# Altium footprint library Connector_IDC.PcbLib: 182 footprints (part 7 of 12)
Each footprint in its own frame and in the unit in brackets; x right, y up, seen from the top. Pads: shape width x height; smd on the part's side, far side on the other; paste and mask are expansions set on the pad; w line width, h text height; cw(c..) or ccw(c..) is an arc to the next point about the centre after c.
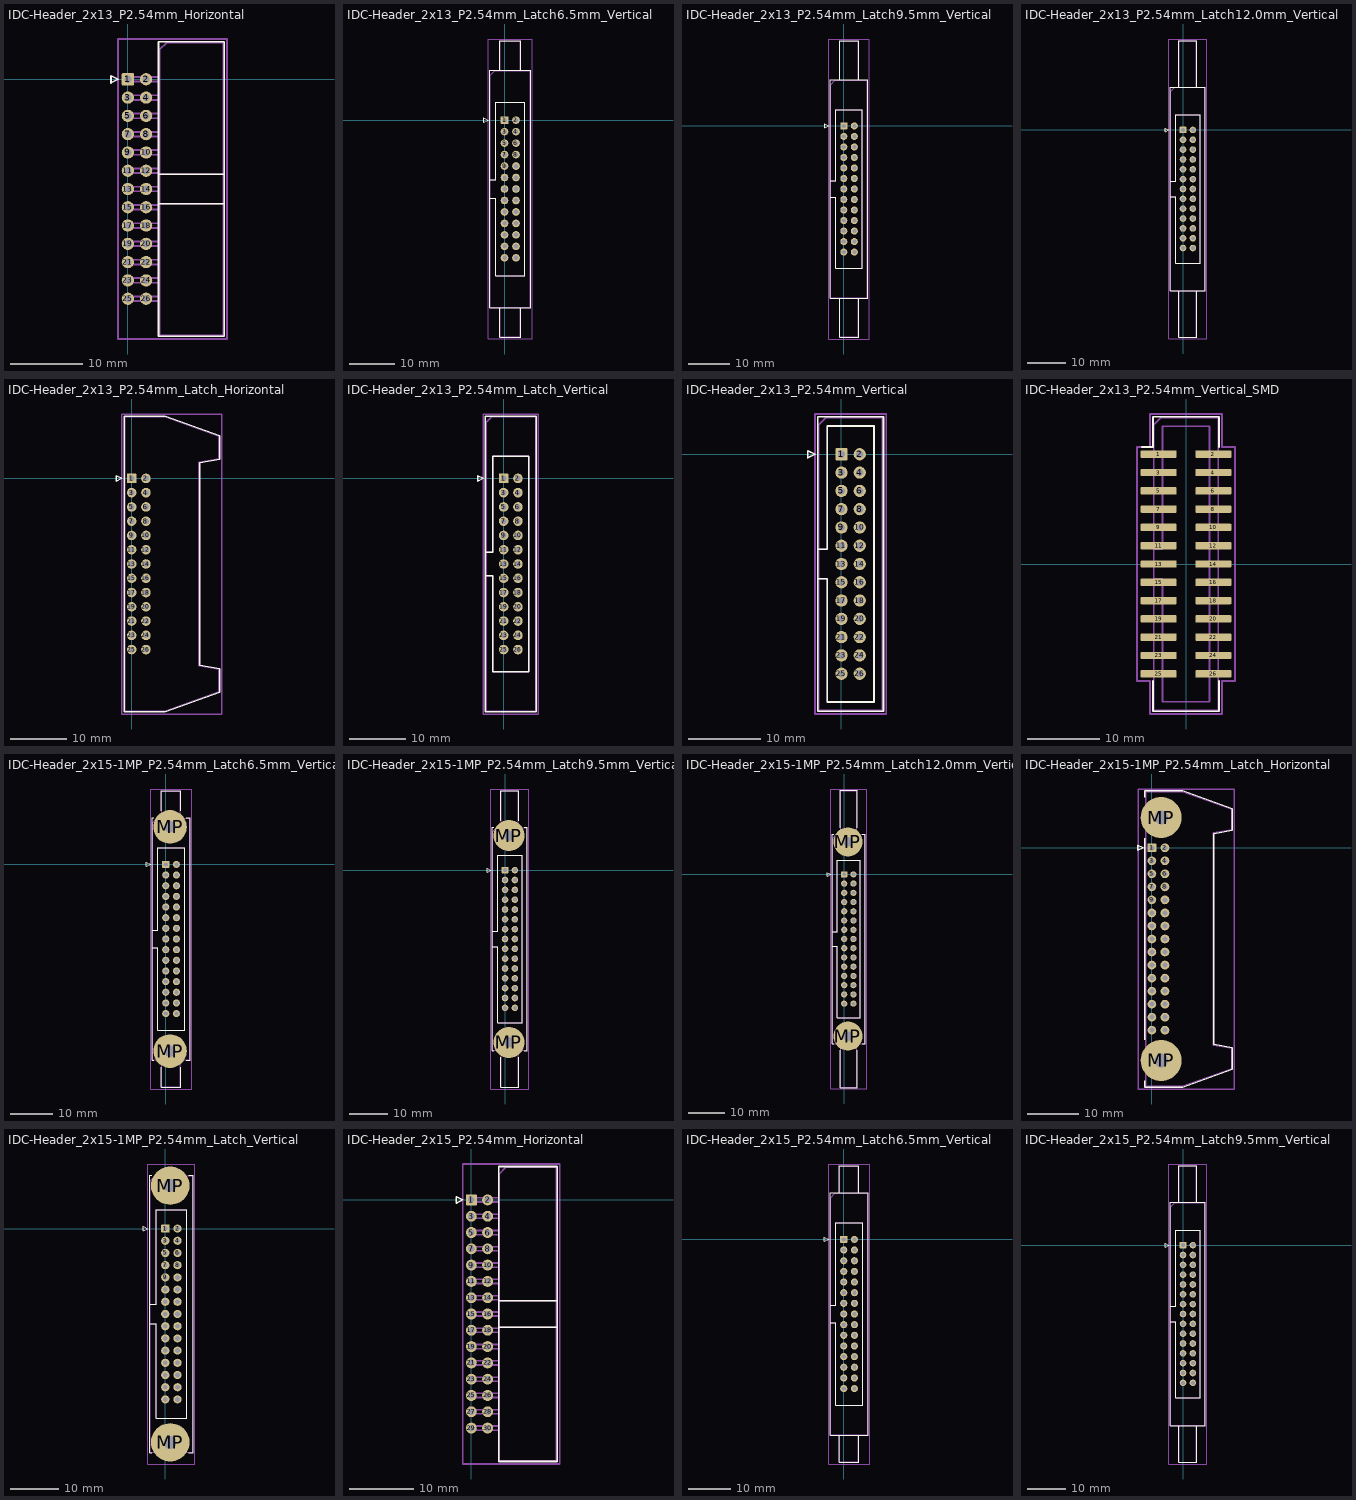
[diagram p6: the footprints below, top view; thin cyan lines are the x and y axes]

## IDC-Header_2x13_P2.54mm_Horizontal [mm]
pads (26):
  rrect15% 1.7x1.7 hole 1: 1(0,0)
  round 1.7 hole 1: 2(2.54,0) 3(0,-2.54) 4(2.54,-2.54) 5(0,-5.08) 6(2.54,-5.08) 7(0,-7.62) 8(2.54,-7.62) 9(0,-10.16) 10(2.54,-10.16) 11(0,-12.7) 12(2.54,-12.7) 13(0,-15.24) 14(2.54,-15.24) 15(0,-17.78) 16(2.54,-17.78) 17(0,-20.32) 18(2.54,-20.32) 19(0,-22.86) 20(2.54,-22.86) 21(0,-25.4) 22(2.54,-25.4) 23(0,-27.94) 24(2.54,-27.94) 25(0,-30.48) 26(2.54,-30.48)
F.SilkS:
  lines w0.254: 4.27,-17.29 13.39,-17.29 ; 4.27,-13.19 13.39,-13.19 ; -2.35,-0.5 -1.35,0 -2.35,0.5 -2.35,-0.5 ; 4.27,-35.69 13.39,-35.69 13.39,5.21 4.27,5.21 4.27,-35.69
Top Assembly:
  lines w0.254: 4.38,-30.8 -0.32,-30.8 -0.32,-30.16 4.38,-30.16 ; 4.38,-28.26 -0.32,-28.26 -0.32,-27.62 4.38,-27.62 ; 4.38,-25.72 -0.32,-25.72 -0.32,-25.08 4.38,-25.08 ; 4.38,-23.18 -0.32,-23.18 -0.32,-22.54 4.38,-22.54 ; 4.38,-20.64 -0.32,-20.64 -0.32,-20 4.38,-20 ; 4.38,-18.1 -0.32,-18.1 -0.32,-17.46 4.38,-17.46 ; 4.38,-17.29 13.28,-17.29 ; 4.38,-15.56 -0.32,-15.56 -0.32,-14.92 4.38,-14.92 ; 4.38,-13.19 13.28,-13.19 ; 4.38,-13.02 -0.32,-13.02 -0.32,-12.38 4.38,-12.38 ; 4.38,-10.48 -0.32,-10.48 -0.32,-9.84 4.38,-9.84 ; 4.38,-7.94 -0.32,-7.94 -0.32,-7.3 4.38,-7.3 ; 4.38,-5.4 -0.32,-5.4 -0.32,-4.76 4.38,-4.76 ; 4.38,-2.86 -0.32,-2.86 -0.32,-2.22 4.38,-2.22 ; 4.38,-0.32 -0.32,-0.32 -0.32,0.32 4.38,0.32 ; 4.38,-35.58 13.28,-35.58 13.28,5.1 5.38,5.1 4.38,4.1 4.38,-35.58
  text "'.Designator'" at 9.67,-19.287 h1
Top Courtyard:
  lines w0.254: -1.35,-36.08 13.78,-36.08 13.78,5.6 -1.35,5.6 -1.35,-36.08
Top Designator:
  text ".Designator" at -1.903,-15.748 h1.52

## IDC-Header_2x13_P2.54mm_Latch6.5mm_Vertical [mm]
pads (26):
  rrect15% 1.7x1.7 hole 1: 1(0,0)
  round 1.7 hole 1: 2(2.54,0) 3(0,-2.54) 4(2.54,-2.54) 5(0,-5.08) 6(2.54,-5.08) 7(0,-7.62) 8(2.54,-7.62) 9(0,-10.16) 10(2.54,-10.16) 11(0,-12.7) 12(2.54,-12.7) 13(0,-15.24) 14(2.54,-15.24) 15(0,-17.78) 16(2.54,-17.78) 17(0,-20.32) 18(2.54,-20.32) 19(0,-22.86) 20(2.54,-22.86) 21(0,-25.4) 22(2.54,-25.4) 23(0,-27.94) 24(2.54,-27.94) 25(0,-30.48) 26(2.54,-30.48)
F.SilkS:
  lines w0.254: -3.24,-17.29 -1.93,-17.29 -1.93,-34.4 4.47,-34.4 4.47,3.92 -1.93,3.92 -1.93,-13.19 -3.24,-13.19 ; -1.04,-41.56 -1.04,-48.06 3.58,-48.06 3.58,-41.56 ; -1.04,11.08 -1.04,17.58 3.58,17.58 3.58,11.08 ; -4.63,-0.5 -3.63,0 -4.63,0.5 -4.63,-0.5 ; -3.24,-41.56 5.78,-41.56 5.78,11.08 -3.24,11.08 -3.24,-41.56
Top Assembly:
  lines w0.254: -3.13,-17.29 -1.93,-17.29 -1.93,-34.4 4.47,-34.4 4.47,3.92 -1.93,3.92 -1.93,-13.19 -3.13,-13.19 ; -0.93,-41.45 -0.93,-47.95 3.47,-47.95 3.47,-41.45 ; -0.93,10.97 -0.93,17.47 3.47,17.47 3.47,10.97 ; -3.13,-41.45 5.67,-41.45 5.67,10.97 -2.13,10.97 -3.13,9.97 -3.13,-41.45
  text "'.Designator'" at 2.11,-19.287 h1
Top Courtyard:
  lines w0.254: -3.63,-48.45 6.17,-48.45 6.17,17.97 -3.63,17.97 -3.63,-48.45
Top Designator:
  text ".Designator" at -6.848,-15.748 h1.52

## IDC-Header_2x13_P2.54mm_Latch9.5mm_Vertical [mm]
pads (26):
  rrect15% 1.7x1.7 hole 1: 1(0,0)
  round 1.7 hole 1: 2(2.54,0) 3(0,-2.54) 4(2.54,-2.54) 5(0,-5.08) 6(2.54,-5.08) 7(0,-7.62) 8(2.54,-7.62) 9(0,-10.16) 10(2.54,-10.16) 11(0,-12.7) 12(2.54,-12.7) 13(0,-15.24) 14(2.54,-15.24) 15(0,-17.78) 16(2.54,-17.78) 17(0,-20.32) 18(2.54,-20.32) 19(0,-22.86) 20(2.54,-22.86) 21(0,-25.4) 22(2.54,-25.4) 23(0,-27.94) 24(2.54,-27.94) 25(0,-30.48) 26(2.54,-30.48)
F.SilkS:
  lines w0.254: -3.24,-17.29 -1.93,-17.29 -1.93,-34.4 4.47,-34.4 4.47,3.92 -1.93,3.92 -1.93,-13.19 -3.24,-13.19 ; -1.04,-41.56 -1.04,-51.06 3.58,-51.06 3.58,-41.56 ; -1.04,11.08 -1.04,20.58 3.58,20.58 3.58,11.08 ; -4.63,-0.5 -3.63,0 -4.63,0.5 -4.63,-0.5 ; -3.24,-41.56 5.78,-41.56 5.78,11.08 -3.24,11.08 -3.24,-41.56
Top Assembly:
  lines w0.254: -3.13,-17.29 -1.93,-17.29 -1.93,-34.4 4.47,-34.4 4.47,3.92 -1.93,3.92 -1.93,-13.19 -3.13,-13.19 ; -0.93,-41.45 -0.93,-50.95 3.47,-50.95 3.47,-41.45 ; -0.93,10.97 -0.93,20.47 3.47,20.47 3.47,10.97 ; -3.13,-41.45 5.67,-41.45 5.67,10.97 -2.13,10.97 -3.13,9.97 -3.13,-41.45
  text "'.Designator'" at 2.11,-19.287 h1
Top Courtyard:
  lines w0.254: -3.63,-51.45 6.17,-51.45 6.17,20.97 -3.63,20.97 -3.63,-51.45
Top Designator:
  text ".Designator" at -6.848,-15.748 h1.52

## IDC-Header_2x13_P2.54mm_Latch12.0mm_Vertical [mm]
pads (26):
  rrect15% 1.7x1.7 hole 1: 1(0,0)
  round 1.7 hole 1: 2(2.54,0) 3(0,-2.54) 4(2.54,-2.54) 5(0,-5.08) 6(2.54,-5.08) 7(0,-7.62) 8(2.54,-7.62) 9(0,-10.16) 10(2.54,-10.16) 11(0,-12.7) 12(2.54,-12.7) 13(0,-15.24) 14(2.54,-15.24) 15(0,-17.78) 16(2.54,-17.78) 17(0,-20.32) 18(2.54,-20.32) 19(0,-22.86) 20(2.54,-22.86) 21(0,-25.4) 22(2.54,-25.4) 23(0,-27.94) 24(2.54,-27.94) 25(0,-30.48) 26(2.54,-30.48)
F.SilkS:
  lines w0.254: -3.24,-17.29 -1.93,-17.29 -1.93,-34.4 4.47,-34.4 4.47,3.92 -1.93,3.92 -1.93,-13.19 -3.24,-13.19 ; -1.04,-41.56 -1.04,-53.56 3.58,-53.56 3.58,-41.56 ; -1.04,11.08 -1.04,23.08 3.58,23.08 3.58,11.08 ; -4.63,-0.5 -3.63,0 -4.63,0.5 -4.63,-0.5 ; -3.24,-41.56 5.78,-41.56 5.78,11.08 -3.24,11.08 -3.24,-41.56
Top Assembly:
  lines w0.254: -3.13,-17.29 -1.93,-17.29 -1.93,-34.4 4.47,-34.4 4.47,3.92 -1.93,3.92 -1.93,-13.19 -3.13,-13.19 ; -0.93,-41.45 -0.93,-53.45 3.47,-53.45 3.47,-41.45 ; -0.93,10.97 -0.93,22.97 3.47,22.97 3.47,10.97 ; -3.13,-41.45 5.67,-41.45 5.67,10.97 -2.13,10.97 -3.13,9.97 -3.13,-41.45
  text "'.Designator'" at 2.11,-19.287 h1
Top Courtyard:
  lines w0.254: -3.63,-53.95 6.17,-53.95 6.17,23.47 -3.63,23.47 -3.63,-53.95
Top Designator:
  text ".Designator" at -6.848,-15.748 h1.52

## IDC-Header_2x13_P2.54mm_Latch_Horizontal [mm]
pads (26):
  rrect15% 1.7x1.7 hole 1: 1(0,0)
  round 1.7 hole 1: 2(2.54,0) 3(0,-2.54) 4(2.54,-2.54) 5(0,-5.08) 6(2.54,-5.08) 7(0,-7.62) 8(2.54,-7.62) 9(0,-10.16) 10(2.54,-10.16) 11(0,-12.7) 12(2.54,-12.7) 13(0,-15.24) 14(2.54,-15.24) 15(0,-17.78) 16(2.54,-17.78) 17(0,-20.32) 18(2.54,-20.32) 19(0,-22.86) 20(2.54,-22.86) 21(0,-25.4) 22(2.54,-25.4) 23(0,-27.94) 24(2.54,-27.94) 25(0,-30.48) 26(2.54,-30.48)
F.SilkS:
  lines w0.254: -2.74,-0.5 -1.74,0 -2.74,0.5 -2.74,-0.5 ; -1.35,-41.56 5.98,-41.56 15.64,-38.09 15.64,-33.9 12.08,-33.27 12.08,2.79 15.64,3.42 15.64,7.61 5.98,11.08 -1.35,11.08 -1.35,-41.56
Top Assembly:
  lines w0.254: -1.24,-41.45 5.87,-41.45 15.53,-37.98 15.53,-34.01 11.97,-33.38 11.97,2.9 15.53,3.53 15.53,7.5 5.87,10.97 -1.24,10.97 -1.24,-41.45
  text "'.Designator'" at 7.985,-19.287 h1
Top Courtyard:
  lines w0.254: -1.74,-41.95 16.03,-41.95 16.03,11.47 -1.74,11.47 -1.74,-41.95
Top Designator:
  text ".Designator" at -0.973,-15.748 h1.52

## IDC-Header_2x13_P2.54mm_Latch_Vertical [mm]
pads (26):
  rrect15% 1.7x1.7 hole 1: 1(0,0)
  round 1.7 hole 1: 2(2.54,0) 3(0,-2.54) 4(2.54,-2.54) 5(0,-5.08) 6(2.54,-5.08) 7(0,-7.62) 8(2.54,-7.62) 9(0,-10.16) 10(2.54,-10.16) 11(0,-12.7) 12(2.54,-12.7) 13(0,-15.24) 14(2.54,-15.24) 15(0,-17.78) 16(2.54,-17.78) 17(0,-20.32) 18(2.54,-20.32) 19(0,-22.86) 20(2.54,-22.86) 21(0,-25.4) 22(2.54,-25.4) 23(0,-27.94) 24(2.54,-27.94) 25(0,-30.48) 26(2.54,-30.48)
F.SilkS:
  lines w0.254: -3.24,-17.29 -1.93,-17.29 -1.93,-34.4 4.47,-34.4 4.47,3.92 -1.93,3.92 -1.93,-13.19 -3.24,-13.19 ; -4.63,-0.5 -3.63,0 -4.63,0.5 -4.63,-0.5 ; -3.24,-41.56 5.78,-41.56 5.78,11.08 -3.24,11.08 -3.24,-41.56
Top Assembly:
  lines w0.254: -3.13,-17.29 -1.93,-17.29 -1.93,-34.4 4.47,-34.4 4.47,3.92 -1.93,3.92 -1.93,-13.19 -3.13,-13.19 ; -3.13,-41.45 5.67,-41.45 5.67,10.97 -2.13,10.97 -3.13,9.97 -3.13,-41.45
  text "'.Designator'" at 2.11,-19.287 h1
Top Courtyard:
  lines w0.254: -3.63,-41.95 6.17,-41.95 6.17,11.47 -3.63,11.47 -3.63,-41.95
Top Designator:
  text ".Designator" at -6.848,-15.748 h1.52

## IDC-Header_2x13_P2.54mm_Vertical [mm]
pads (26):
  rrect15% 1.7x1.7 hole 1: 1(0,0)
  round 1.7 hole 1: 2(2.54,0) 3(0,-2.54) 4(2.54,-2.54) 5(0,-5.08) 6(2.54,-5.08) 7(0,-7.62) 8(2.54,-7.62) 9(0,-10.16) 10(2.54,-10.16) 11(0,-12.7) 12(2.54,-12.7) 13(0,-15.24) 14(2.54,-15.24) 15(0,-17.78) 16(2.54,-17.78) 17(0,-20.32) 18(2.54,-20.32) 19(0,-22.86) 20(2.54,-22.86) 21(0,-25.4) 22(2.54,-25.4) 23(0,-27.94) 24(2.54,-27.94) 25(0,-30.48) 26(2.54,-30.48)
F.SilkS:
  lines w0.254: -3.29,-17.29 -1.98,-17.29 -1.98,-34.39 4.52,-34.39 4.52,3.91 -1.98,3.91 -1.98,-13.19 -3.29,-13.19 ; -4.68,-0.5 -3.68,0 -4.68,0.5 -4.68,-0.5 ; -3.29,-35.69 5.83,-35.69 5.83,5.21 -3.29,5.21 -3.29,-35.69
Top Assembly:
  lines w0.254: -3.18,-17.29 -1.98,-17.29 -1.98,-34.39 4.52,-34.39 4.52,3.91 -1.98,3.91 -1.98,-13.19 -3.18,-13.19 ; -3.18,-35.58 5.72,-35.58 5.72,5.1 -2.18,5.1 -3.18,4.1 -3.18,-35.58
  text "'.Designator'" at 2.11,-19.287 h1
Top Courtyard:
  lines w0.254: -3.68,-36.08 6.22,-36.08 6.22,5.6 -3.68,5.6 -3.68,-36.08
Top Designator:
  text ".Designator" at -6.848,-15.748 h1.52

## IDC-Header_2x13_P2.54mm_Vertical_SMD [mm]
pads (26):
  rrect25% 5x1.02 smd: 1(-3.8,15.24) 2(3.8,15.24) 3(-3.8,12.7) 4(3.8,12.7) 5(-3.8,10.16) 6(3.8,10.16) 7(-3.8,7.62) 8(3.8,7.62) 9(-3.8,5.08) 10(3.8,5.08) 11(-3.8,2.54) 12(3.8,2.54) 13(-3.8,0) 14(3.8,0) 15(-3.8,-2.54) 16(3.8,-2.54) 17(-3.8,-5.08) 18(3.8,-5.08) 19(-3.8,-7.62) 20(3.8,-7.62) 21(-3.8,-10.16) 22(3.8,-10.16) 23(-3.8,-12.7) 24(3.8,-12.7) 25(-3.8,-15.24) 26(3.8,-15.24)
F.SilkS:
  lines w0.254: -6.085,16.25 -4.585,16.25 -4.585,20.43 4.585,20.43 4.585,16.25 ; -4.585,-16.25 -4.585,-20.43 4.585,-20.43 4.585,-16.25
Top Assembly:
  lines w0.254: -4.475,-2.05 -3.275,-2.05 -3.275,-19.12 3.275,-19.12 3.275,19.12 -3.275,19.12 -3.275,2.05 -4.475,2.05 ; -4.475,-20.32 4.475,-20.32 4.475,20.32 -3.475,20.32 -4.475,19.32 -4.475,-20.32
  text "'.Designator'" at 0.84,-4.047 h1
Top Courtyard:
  lines w0.254: -6.8,-16.25 -4.98,-16.25 -4.98,-20.82 4.98,-20.82 4.98,-16.25 6.8,-16.25 6.8,16.25 4.98,16.25 4.98,20.82 -4.98,20.82 -4.98,16.25 -6.8,16.25 -6.8,-16.25
Top Designator:
  text ".Designator" at -7.618,-0.508 h1.52

## IDC-Header_2x15-1MP_P2.54mm_Latch6.5mm_Vertical [mm]
pads (32):
  rrect15% 1.7x1.7 hole 1: 1(0,0)
  round 1.7 hole 1: 2(2.54,0) 3(0,-2.54) 4(2.54,-2.54) 5(0,-5.08) 6(2.54,-5.08) 7(0,-7.62) 8(2.54,-7.62) 9(0,-10.16) 10(2.54,-10.16) 11(0,-12.7) 12(2.54,-12.7) 13(0,-15.24) 14(2.54,-15.24) 15(0,-17.78) 16(2.54,-17.78) 17(0,-20.32) 18(2.54,-20.32) 19(0,-22.86) 20(2.54,-22.86) 21(0,-25.4) 22(2.54,-25.4) 23(0,-27.94) 24(2.54,-27.94) 25(0,-30.48) 26(2.54,-30.48) 27(0,-33.02) 28(2.54,-33.02) 29(0,-35.56) 30(2.54,-35.56)
  round 8 hole 2.69: MP(1.02,-44.5) MP(1.02,8.94)
F.SilkS:
  lines w0.254: -3.24,-19.83 -1.93,-19.83 -1.93,-39.48 4.47,-39.48 4.47,3.92 -1.93,3.92 -1.93,-15.73 -3.24,-15.73 ; -2.87,-46.64 -3.24,-46.64 -3.24,11.08 -2.87,11.08 ; -1.04,-48.39 -1.04,-53.14 3.58,-53.14 3.58,-48.39 ; -1.04,12.83 -1.04,17.58 3.58,17.58 3.58,12.83 ; 4.91,-46.64 5.78,-46.64 5.78,11.08 4.91,11.08 ; -4.63,-0.5 -3.63,0 -4.63,0.5 -4.63,-0.5
Top Assembly:
  lines w0.254: -3.13,-19.83 -1.93,-19.83 -1.93,-39.48 4.47,-39.48 4.47,3.92 -1.93,3.92 -1.93,-15.73 -3.13,-15.73 ; -0.93,-46.53 -0.93,-53.03 3.47,-53.03 3.47,-46.53 ; -0.93,10.97 -0.93,17.47 3.47,17.47 3.47,10.97 ; -3.13,-46.53 5.67,-46.53 5.67,10.97 -2.13,10.97 -3.13,9.97 -3.13,-46.53
  text "'.Designator'" at 2.11,-21.827 h1
Top Courtyard:
  lines w0.254: -3.63,-53.53 6.17,-53.53 6.17,17.97 -3.63,17.97 -3.63,-53.53
Top Designator:
  text ".Designator" at -6.848,-18.288 h1.52

## IDC-Header_2x15-1MP_P2.54mm_Latch9.5mm_Vertical [mm]
pads (32):
  rrect15% 1.7x1.7 hole 1: 1(0,0)
  round 1.7 hole 1: 2(2.54,0) 3(0,-2.54) 4(2.54,-2.54) 5(0,-5.08) 6(2.54,-5.08) 7(0,-7.62) 8(2.54,-7.62) 9(0,-10.16) 10(2.54,-10.16) 11(0,-12.7) 12(2.54,-12.7) 13(0,-15.24) 14(2.54,-15.24) 15(0,-17.78) 16(2.54,-17.78) 17(0,-20.32) 18(2.54,-20.32) 19(0,-22.86) 20(2.54,-22.86) 21(0,-25.4) 22(2.54,-25.4) 23(0,-27.94) 24(2.54,-27.94) 25(0,-30.48) 26(2.54,-30.48) 27(0,-33.02) 28(2.54,-33.02) 29(0,-35.56) 30(2.54,-35.56)
  round 8 hole 2.69: MP(1.02,-44.5) MP(1.02,8.94)
F.SilkS:
  lines w0.254: -3.24,-19.83 -1.93,-19.83 -1.93,-39.48 4.47,-39.48 4.47,3.92 -1.93,3.92 -1.93,-15.73 -3.24,-15.73 ; -2.87,-46.64 -3.24,-46.64 -3.24,11.08 -2.87,11.08 ; -1.04,-48.39 -1.04,-56.14 3.58,-56.14 3.58,-48.39 ; -1.04,12.83 -1.04,20.58 3.58,20.58 3.58,12.83 ; 4.91,-46.64 5.78,-46.64 5.78,11.08 4.91,11.08 ; -4.63,-0.5 -3.63,0 -4.63,0.5 -4.63,-0.5
Top Assembly:
  lines w0.254: -3.13,-19.83 -1.93,-19.83 -1.93,-39.48 4.47,-39.48 4.47,3.92 -1.93,3.92 -1.93,-15.73 -3.13,-15.73 ; -0.93,-46.53 -0.93,-56.03 3.47,-56.03 3.47,-46.53 ; -0.93,10.97 -0.93,20.47 3.47,20.47 3.47,10.97 ; -3.13,-46.53 5.67,-46.53 5.67,10.97 -2.13,10.97 -3.13,9.97 -3.13,-46.53
  text "'.Designator'" at 2.11,-21.827 h1
Top Courtyard:
  lines w0.254: -3.63,-56.53 6.17,-56.53 6.17,20.97 -3.63,20.97 -3.63,-56.53
Top Designator:
  text ".Designator" at -6.848,-18.288 h1.52

## IDC-Header_2x15-1MP_P2.54mm_Latch12.0mm_Vertical [mm]
pads (32):
  rrect15% 1.7x1.7 hole 1: 1(0,0)
  round 1.7 hole 1: 2(2.54,0) 3(0,-2.54) 4(2.54,-2.54) 5(0,-5.08) 6(2.54,-5.08) 7(0,-7.62) 8(2.54,-7.62) 9(0,-10.16) 10(2.54,-10.16) 11(0,-12.7) 12(2.54,-12.7) 13(0,-15.24) 14(2.54,-15.24) 15(0,-17.78) 16(2.54,-17.78) 17(0,-20.32) 18(2.54,-20.32) 19(0,-22.86) 20(2.54,-22.86) 21(0,-25.4) 22(2.54,-25.4) 23(0,-27.94) 24(2.54,-27.94) 25(0,-30.48) 26(2.54,-30.48) 27(0,-33.02) 28(2.54,-33.02) 29(0,-35.56) 30(2.54,-35.56)
  round 8 hole 2.69: MP(1.02,-44.5) MP(1.02,8.94)
F.SilkS:
  lines w0.254: -3.24,-19.83 -1.93,-19.83 -1.93,-39.48 4.47,-39.48 4.47,3.92 -1.93,3.92 -1.93,-15.73 -3.24,-15.73 ; -2.87,-46.64 -3.24,-46.64 -3.24,11.08 -2.87,11.08 ; -1.04,-48.39 -1.04,-58.64 3.58,-58.64 3.58,-48.39 ; -1.04,12.83 -1.04,23.08 3.58,23.08 3.58,12.83 ; 4.91,-46.64 5.78,-46.64 5.78,11.08 4.91,11.08 ; -4.63,-0.5 -3.63,0 -4.63,0.5 -4.63,-0.5
Top Assembly:
  lines w0.254: -3.13,-19.83 -1.93,-19.83 -1.93,-39.48 4.47,-39.48 4.47,3.92 -1.93,3.92 -1.93,-15.73 -3.13,-15.73 ; -0.93,-46.53 -0.93,-58.53 3.47,-58.53 3.47,-46.53 ; -0.93,10.97 -0.93,22.97 3.47,22.97 3.47,10.97 ; -3.13,-46.53 5.67,-46.53 5.67,10.97 -2.13,10.97 -3.13,9.97 -3.13,-46.53
  text "'.Designator'" at 2.11,-21.827 h1
Top Courtyard:
  lines w0.254: -3.63,-59.03 6.17,-59.03 6.17,23.47 -3.63,23.47 -3.63,-59.03
Top Designator:
  text ".Designator" at -6.848,-18.288 h1.52

## IDC-Header_2x15-1MP_P2.54mm_Latch_Horizontal [mm]
pads (32):
  rrect15% 1.7x1.7 hole 1: 1(0,0)
  round 1.7 hole 1: 2(2.54,0) 3(0,-2.54) 4(2.54,-2.54) 5(0,-5.08) 6(2.54,-5.08) 7(0,-7.62) 8(2.54,-7.62) 9(0,-10.16) 10(2.54,-10.16) 11(0,-12.7) 12(2.54,-12.7) 13(0,-15.24) 14(2.54,-15.24) 15(0,-17.78) 16(2.54,-17.78) 17(0,-20.32) 18(2.54,-20.32) 19(0,-22.86) 20(2.54,-22.86) 21(0,-25.4) 22(2.54,-25.4) 23(0,-27.94) 24(2.54,-27.94) 25(0,-30.48) 26(2.54,-30.48) 27(0,-33.02) 28(2.54,-33.02) 29(0,-35.56) 30(2.54,-35.56)
  round 8 hole 2.69: MP(1.8,-41.465) MP(1.8,5.905)
F.SilkS:
  lines w0.254: -1.35,-45.465 -1.35,-46.64 5.98,-46.64 15.64,-43.17 15.64,-38.98 12.08,-38.35 12.08,2.79 15.64,3.42 15.64,7.61 5.98,11.08 -1.35,11.08 -1.35,9.905 ; -1.35,-37.465 -1.35,1.905 ; -2.74,-0.5 -1.74,0 -2.74,0.5 -2.74,-0.5
Top Assembly:
  lines w0.254: -1.24,-46.53 5.87,-46.53 15.53,-43.06 15.53,-39.09 11.97,-38.46 11.97,2.9 15.53,3.53 15.53,7.5 5.87,10.97 -1.24,10.97 -1.24,-46.53
  text "'.Designator'" at 7.985,-21.827 h1
Top Courtyard:
  lines w0.254: -2.7,-47.03 16.03,-47.03 16.03,11.47 -2.7,11.47 -2.7,-47.03
Top Designator:
  text ".Designator" at -0.973,-18.288 h1.52

## IDC-Header_2x15-1MP_P2.54mm_Latch_Vertical [mm]
pads (32):
  rrect15% 1.7x1.7 hole 1: 1(0,0)
  round 1.7 hole 1: 2(2.54,0) 3(0,-2.54) 4(2.54,-2.54) 5(0,-5.08) 6(2.54,-5.08) 7(0,-7.62) 8(2.54,-7.62) 9(0,-10.16) 10(2.54,-10.16) 11(0,-12.7) 12(2.54,-12.7) 13(0,-15.24) 14(2.54,-15.24) 15(0,-17.78) 16(2.54,-17.78) 17(0,-20.32) 18(2.54,-20.32) 19(0,-22.86) 20(2.54,-22.86) 21(0,-25.4) 22(2.54,-25.4) 23(0,-27.94) 24(2.54,-27.94) 25(0,-30.48) 26(2.54,-30.48) 27(0,-33.02) 28(2.54,-33.02) 29(0,-35.56) 30(2.54,-35.56)
  round 8 hole 2.69: MP(1.02,-44.5) MP(1.02,8.94)
F.SilkS:
  lines w0.254: -3.24,-19.83 -1.93,-19.83 -1.93,-39.48 4.47,-39.48 4.47,3.92 -1.93,3.92 -1.93,-15.73 -3.24,-15.73 ; -2.87,-46.64 -3.24,-46.64 -3.24,11.08 -2.87,11.08 ; 4.91,-46.64 5.78,-46.64 5.78,11.08 4.91,11.08 ; -4.63,-0.5 -3.63,0 -4.63,0.5 -4.63,-0.5
Top Assembly:
  lines w0.254: -3.13,-19.83 -1.93,-19.83 -1.93,-39.48 4.47,-39.48 4.47,3.92 -1.93,3.92 -1.93,-15.73 -3.13,-15.73 ; -3.13,-46.53 5.67,-46.53 5.67,10.97 -2.13,10.97 -3.13,9.97 -3.13,-46.53
  text "'.Designator'" at 2.11,-21.827 h1
Top Courtyard:
  lines w0.254: -3.63,-49 6.17,-49 6.17,13.44 -3.63,13.44 -3.63,-49
Top Designator:
  text ".Designator" at -6.848,-18.288 h1.52

## IDC-Header_2x15_P2.54mm_Horizontal [mm]
pads (30):
  rrect15% 1.7x1.7 hole 1: 1(0,0)
  round 1.7 hole 1: 2(2.54,0) 3(0,-2.54) 4(2.54,-2.54) 5(0,-5.08) 6(2.54,-5.08) 7(0,-7.62) 8(2.54,-7.62) 9(0,-10.16) 10(2.54,-10.16) 11(0,-12.7) 12(2.54,-12.7) 13(0,-15.24) 14(2.54,-15.24) 15(0,-17.78) 16(2.54,-17.78) 17(0,-20.32) 18(2.54,-20.32) 19(0,-22.86) 20(2.54,-22.86) 21(0,-25.4) 22(2.54,-25.4) 23(0,-27.94) 24(2.54,-27.94) 25(0,-30.48) 26(2.54,-30.48) 27(0,-33.02) 28(2.54,-33.02) 29(0,-35.56) 30(2.54,-35.56)
F.SilkS:
  lines w0.254: 4.27,-19.83 13.39,-19.83 ; 4.27,-15.73 13.39,-15.73 ; -2.35,-0.5 -1.35,0 -2.35,0.5 -2.35,-0.5 ; 4.27,-40.77 13.39,-40.77 13.39,5.21 4.27,5.21 4.27,-40.77
Top Assembly:
  lines w0.254: 4.38,-35.88 -0.32,-35.88 -0.32,-35.24 4.38,-35.24 ; 4.38,-33.34 -0.32,-33.34 -0.32,-32.7 4.38,-32.7 ; 4.38,-30.8 -0.32,-30.8 -0.32,-30.16 4.38,-30.16 ; 4.38,-28.26 -0.32,-28.26 -0.32,-27.62 4.38,-27.62 ; 4.38,-25.72 -0.32,-25.72 -0.32,-25.08 4.38,-25.08 ; 4.38,-23.18 -0.32,-23.18 -0.32,-22.54 4.38,-22.54 ; 4.38,-20.64 -0.32,-20.64 -0.32,-20 4.38,-20 ; 4.38,-19.83 13.28,-19.83 ; 4.38,-18.1 -0.32,-18.1 -0.32,-17.46 4.38,-17.46 ; 4.38,-15.73 13.28,-15.73 ; 4.38,-15.56 -0.32,-15.56 -0.32,-14.92 4.38,-14.92 ; 4.38,-13.02 -0.32,-13.02 -0.32,-12.38 4.38,-12.38 ; 4.38,-10.48 -0.32,-10.48 -0.32,-9.84 4.38,-9.84 ; 4.38,-7.94 -0.32,-7.94 -0.32,-7.3 4.38,-7.3 ; 4.38,-5.4 -0.32,-5.4 -0.32,-4.76 4.38,-4.76 ; 4.38,-2.86 -0.32,-2.86 -0.32,-2.22 4.38,-2.22 ; 4.38,-0.32 -0.32,-0.32 -0.32,0.32 4.38,0.32 ; 4.38,-40.66 13.28,-40.66 13.28,5.1 5.38,5.1 4.38,4.1 4.38,-40.66
  text "'.Designator'" at 9.67,-21.827 h1
Top Courtyard:
  lines w0.254: -1.35,-41.16 13.78,-41.16 13.78,5.6 -1.35,5.6 -1.35,-41.16
Top Designator:
  text ".Designator" at -1.903,-18.288 h1.52

## IDC-Header_2x15_P2.54mm_Latch6.5mm_Vertical [mm]
pads (30):
  rrect15% 1.7x1.7 hole 1: 1(0,0)
  round 1.7 hole 1: 2(2.54,0) 3(0,-2.54) 4(2.54,-2.54) 5(0,-5.08) 6(2.54,-5.08) 7(0,-7.62) 8(2.54,-7.62) 9(0,-10.16) 10(2.54,-10.16) 11(0,-12.7) 12(2.54,-12.7) 13(0,-15.24) 14(2.54,-15.24) 15(0,-17.78) 16(2.54,-17.78) 17(0,-20.32) 18(2.54,-20.32) 19(0,-22.86) 20(2.54,-22.86) 21(0,-25.4) 22(2.54,-25.4) 23(0,-27.94) 24(2.54,-27.94) 25(0,-30.48) 26(2.54,-30.48) 27(0,-33.02) 28(2.54,-33.02) 29(0,-35.56) 30(2.54,-35.56)
F.SilkS:
  lines w0.254: -3.24,-19.83 -1.93,-19.83 -1.93,-39.48 4.47,-39.48 4.47,3.92 -1.93,3.92 -1.93,-15.73 -3.24,-15.73 ; -1.04,-46.64 -1.04,-53.14 3.58,-53.14 3.58,-46.64 ; -1.04,11.08 -1.04,17.58 3.58,17.58 3.58,11.08 ; -4.63,-0.5 -3.63,0 -4.63,0.5 -4.63,-0.5 ; -3.24,-46.64 5.78,-46.64 5.78,11.08 -3.24,11.08 -3.24,-46.64
Top Assembly:
  lines w0.254: -3.13,-19.83 -1.93,-19.83 -1.93,-39.48 4.47,-39.48 4.47,3.92 -1.93,3.92 -1.93,-15.73 -3.13,-15.73 ; -0.93,-46.53 -0.93,-53.03 3.47,-53.03 3.47,-46.53 ; -0.93,10.97 -0.93,17.47 3.47,17.47 3.47,10.97 ; -3.13,-46.53 5.67,-46.53 5.67,10.97 -2.13,10.97 -3.13,9.97 -3.13,-46.53
  text "'.Designator'" at 2.11,-21.827 h1
Top Courtyard:
  lines w0.254: -3.63,-53.53 6.17,-53.53 6.17,17.97 -3.63,17.97 -3.63,-53.53
Top Designator:
  text ".Designator" at -6.848,-18.288 h1.52

## IDC-Header_2x15_P2.54mm_Latch9.5mm_Vertical [mm]
pads (30):
  rrect15% 1.7x1.7 hole 1: 1(0,0)
  round 1.7 hole 1: 2(2.54,0) 3(0,-2.54) 4(2.54,-2.54) 5(0,-5.08) 6(2.54,-5.08) 7(0,-7.62) 8(2.54,-7.62) 9(0,-10.16) 10(2.54,-10.16) 11(0,-12.7) 12(2.54,-12.7) 13(0,-15.24) 14(2.54,-15.24) 15(0,-17.78) 16(2.54,-17.78) 17(0,-20.32) 18(2.54,-20.32) 19(0,-22.86) 20(2.54,-22.86) 21(0,-25.4) 22(2.54,-25.4) 23(0,-27.94) 24(2.54,-27.94) 25(0,-30.48) 26(2.54,-30.48) 27(0,-33.02) 28(2.54,-33.02) 29(0,-35.56) 30(2.54,-35.56)
F.SilkS:
  lines w0.254: -3.24,-19.83 -1.93,-19.83 -1.93,-39.48 4.47,-39.48 4.47,3.92 -1.93,3.92 -1.93,-15.73 -3.24,-15.73 ; -1.04,-46.64 -1.04,-56.14 3.58,-56.14 3.58,-46.64 ; -1.04,11.08 -1.04,20.58 3.58,20.58 3.58,11.08 ; -4.63,-0.5 -3.63,0 -4.63,0.5 -4.63,-0.5 ; -3.24,-46.64 5.78,-46.64 5.78,11.08 -3.24,11.08 -3.24,-46.64
Top Assembly:
  lines w0.254: -3.13,-19.83 -1.93,-19.83 -1.93,-39.48 4.47,-39.48 4.47,3.92 -1.93,3.92 -1.93,-15.73 -3.13,-15.73 ; -0.93,-46.53 -0.93,-56.03 3.47,-56.03 3.47,-46.53 ; -0.93,10.97 -0.93,20.47 3.47,20.47 3.47,10.97 ; -3.13,-46.53 5.67,-46.53 5.67,10.97 -2.13,10.97 -3.13,9.97 -3.13,-46.53
  text "'.Designator'" at 2.11,-21.827 h1
Top Courtyard:
  lines w0.254: -3.63,-56.53 6.17,-56.53 6.17,20.97 -3.63,20.97 -3.63,-56.53
Top Designator:
  text ".Designator" at -6.848,-18.288 h1.52